# Altium schematic symbol library Schlib1.SchLib: 17 symbols
Pins are listed as number, name and electrical type; pins without a type are passive.

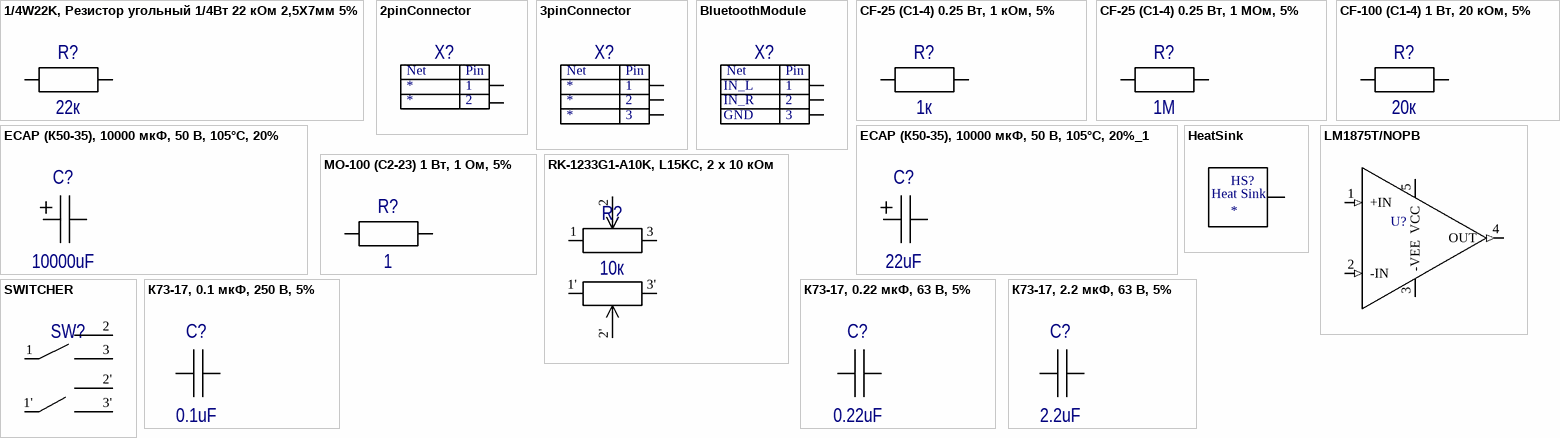
[diagram p0: symbols 1/4W22K, Резистор угольный 1/4Вт 22 кОм 2,5X7мм 5% to К73-17, 2.2 мкФ, 63 В, 5%]

## 1/4W22K, Резистор угольный 1/4Вт 22 кОм 2,5X7мм 5%
designator R?, comment 22к
8007031688; Other: *; Value: 22к
footprint res0.25W/22k/400mil
pins: 1, 2

## 2pinConnector
designator X?
Generic connector; Other: *; Parameter 2: *; Parameter 1: *
footprint BUTTON_template (Button_in)
pins: 1, 2
text: Net; Pin

## 3pinConnector
designator X?
Generic connector; Other: *; Parameter 3: *; Parameter 2: *; Parameter 1: *
footprint 3pim2.54Connector (Button_in)
pins: 1, 2, 3
text: Net; Pin

## BluetoothModule
designator X?
Input from Bluetooth module; Other: *
footprint 3pim2.54Connector (Button_in)
pins: 1, 2, 3
text: Net; Pin; IN_L; IN_R; GND

## CF-25 (С1-4) 0.25 Вт, 1 кОм, 5%
designator R?, comment 1к
44435; Other: *; Value: 1к
footprint res0.25W/1k/400mil
pins: 1, 2

## CF-25 (С1-4) 0.25 Вт, 1 МОм, 5%
designator R?, comment 1М
51741; Other: *; Value: 1М
footprint res0.25W/1M/0.5pitch
pins: 1, 2

## CF-100 (С1-4) 1 Вт, 20 кОм, 5%
designator R?, comment 20к
10828; Other: *; Value: 20к
footprint res0.25W/20k/400mil
pins: 1, 2

## ECAP (К50-35), 10000 мкФ, 50 В, 105°C, 20%
designator C?, comment 10000uF
26320; Model: *; Other: *; Value: 10000uF
footprint Capacitor_SnapIn_35x50mm
pins: 1 +, 2 -

## ECAP (К50-35), 10000 мкФ, 50 В, 105°C, 20%_1
designator C?, comment 22uF
9000565851; Model: *; Other: *; Value: 22uF
footprint capRadial6.3x12mmP:2.5mm
pins: 1 +, 2 -

## HeatSink
designator HS?
footprint HeatSink
pins: 1 HS (power)
text: Heat Sink

## LM1875T/NOPB
designator U?
12717
footprint TO220-5/2.54 (DS1023-2x7)
pins: 1 +IN (in), 2 -IN (in), 3 -VEE (power), 4 OUT (out), 5 VCC (power)

## MO-100 (С2-23) 1 Вт, 1 Ом, 5%
designator R?, comment 1
24035; Other: *; Value: 1
footprint res1W/1/700mil
pins: 1, 2

## RK-1233G1-A10K, L15KC, 2 х 10 кОм
designator R?, comment 10к
588623436; Other: *; Value: 10к
footprint dualVarRes (Button_in)
pins: 1, 1', 2, 2', 3, 3'

## SWITCHER
designator SW?
-; Other: *
footprint dualVarRes (Button_in)
pins: 1, 1', 2, 2', 3, 3'

## К73-17, 0.1 мкФ, 250 В, 5%
designator C?, comment 0.1uF
26320; Model: *; Other: *; Value: 0.1uF
footprint capK73-17
pins: 1, 2

## К73-17, 0.22 мкФ, 63 В, 5%
designator C?, comment 0.22uF
61862; Model: *; Other: *; Value: 0.22uF
footprint capK73-17
pins: 1, 2

## К73-17, 2.2 мкФ, 63 В, 5%
designator C?, comment 2.2uF
8016; Model: *; Other: *; Value: 2.2uF
footprint capK73-17
pins: 1, 2